# EAGLE library part LT_LT5400-3 (library Gyro-Test_2)
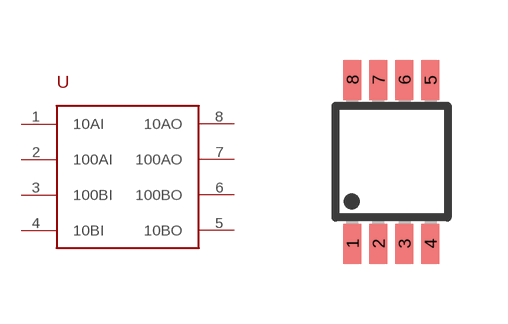
[diagram p1: symbol with the pads of LT_MSOP8; footprint LT_MSOP8]

Designator prefix U

## LT_LT5400-3  [LT_MSOP8]
1  10AI
2  100AI
3  100BI
4  10BI
5  10BO
6  100BO
7  100AO
8  10AO

## Footprint LT_MSOP8 (pad centres in mm)
Micro Small Outline Package Grid .65mm
smd 0.45 x 1: 1 -0.975,-2.05; 2 -0.325,-2.05; 3 0.325,-2.05; 4 0.975,-2.05; 5 0.975,2.05; 6 0.325,2.05; 7 -0.325,2.05; 8 -0.975,2.05